# Altium schematic symbol library FDP083N15Ax2.SchLib: 1 symbol
Pins are listed as number, name and electrical type; pins without a type are passive.

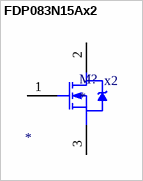
[diagram p0: symbol FDP083N15Ax2]

## FDP083N15Ax2
designator M?
MfrPartNo: *
pins: 1 G, 2 D, 3 S, 4 G, 5 D, 6 S
text: x2